# EAGLE library part AD5206BRUZ100-RL7 (library AD5206BRUZ100-RL7)
6-Channel, 256-Position Digital Potentiometer
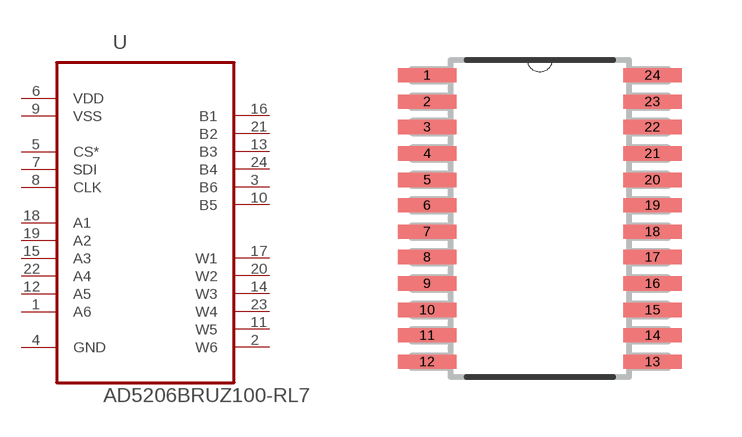
[diagram p0: symbol with the pads of SOP65P640X120-24N; footprint SOP65P640X120-24N]

Designator prefix U

## AD5206BRUZ100-RL7 (Description: Digital Potentiometer 256POS 100KOhm Hex 24-Pin TSSOP T/R; Digi-Key_Part_Number: AD5206BRUZ100-RL7CT-ND; Digi-Key_Purchase_URL: https://www.digikey.ca/product-detail/en/analog-devices-inc/AD5206BRUZ100-RL7/AD5206BRUZ100-RL7CT-ND/4166571?utm_source=snapeda&utm_medium=aggregator&utm_campaign=symbol; MF: Analog Devices; MP: AD5206BRUZ100-RL7; Package: TSSOP-24 Analog Devices)  [SOP65P640X120-24N]
1  A6  pas
2  W6  pas
3  B6  pas
4  GND  pwr
5  CS*  pas
6  VDD  pwr
7  SDI  pas
8  CLK  pas
9  VSS  pwr
10  B5  pas
11  W5  pas
12  A5  pas
13  B3  pas
14  W3  pas
15  A3  pas
16  B1  pas
17  W1  pas
18  A1  pas
19  A2  pas
20  W2  pas
21  B2  pas
22  A4  pas
23  W4  pas
24  B4  pas

## Footprint SOP65P640X120-24N (pad centres in mm)
smd 1.473 x 0.356: 1 -2.819,3.581; 2 -2.819,2.921; 3 -2.819,2.286; 4 -2.819,1.626; 5 -2.819,0.965; 6 -2.819,0.33; 7 -2.819,-0.33; 8 -2.819,-0.965; 9 -2.819,-1.626; 10 -2.819,-2.286; 11 -2.819,-2.921; 12 -2.819,-3.581; 13 2.819,-3.581; 14 2.819,-2.921; 15 2.819,-2.286; 16 2.819,-1.626; 17 2.819,-0.965; 18 2.819,-0.33; 19 2.819,0.33; 20 2.819,0.965; 21 2.819,1.626; 22 2.819,2.286; 23 2.819,2.921; 24 2.819,3.581